# Altium schematic symbol library 61300621121.SchLib: 1 symbol
Pins are listed as number, name and electrical type; pins without a type are passive.

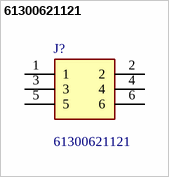
[diagram p0: symbol 61300621121]

## 61300621121
designator J?
WR-PHD 2.54mm  Dual Pin Header THT 06p Wurth Elektronik WR-PHD Series, Series Number 6130, 2.54mm Pitch 6 Way 2 Row Straight PCB Header, Solder Termination; Geometry.Height: 8.89mm; Mouser Part Number: 710-61300621121; Mouser Price/Stock: https://www.mouser.co.uk/ProductDetail/Wurth-Elektronik/61300621121?qs=PhR8RmCirEb94hrEcn0AQg%3D%3D; Manufacturer_Name: Wurth Elektronik; Manufacturer_Part_Number: 61300621121; Datasheet Link: *
footprint HDRV6W64P254_2X3_762X508X889P
pins: 1, 2, 3, 4, 5, 6